# EAGLE library part 55917-2010 (library con-molex_MOD)
2.00mm Pitch MicroClasp™ Wire-to-Board Header, Dual Row, Vertical, 20 Circuits, with PCB Locator
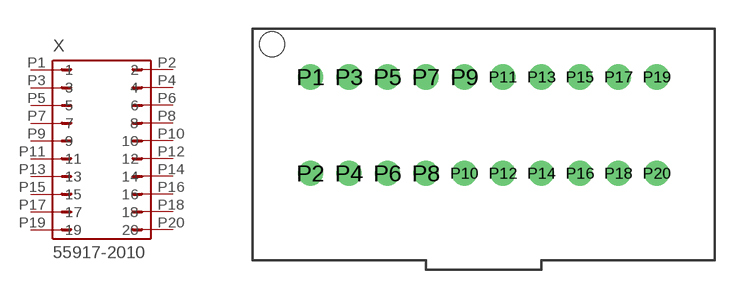
[diagram p227: symbol with the pads of 55917-2010; footprint 55917-2010]

Designator prefix X

## 55917-2010  [55917-2010]
P1  1  pas
P2  2  pas
P3  3  pas
P4  4  pas
P5  5  pas
P6  6  pas
P7  7  pas
P8  8  pas
P9  9  pas
P10  10  pas
P11  11  pas
P12  12  pas
P13  13  pas
P14  14  pas
P15  15  pas
P16  16  pas
P17  17  pas
P18  18  pas
P19  19  pas
P20  20  pas

## Footprint 55917-2010 (pad centres in mm)
drill 0.8: P1 -9,2.5; P2 -9,-2.5; P3 -7,2.5; P4 -7,-2.5; P5 -5,2.5; P6 -5,-2.5; P7 -3,2.5; P8 -3,-2.5; P9 -1,2.5; P10 -1,-2.5; P11 1,2.5; P12 1,-2.5; P13 3,2.5; P14 3,-2.5; P15 5,2.5; P16 5,-2.5; P17 7,2.5; P18 7,-2.5; P19 9,2.5; P20 9,-2.5
hole 1.3 at -11,4.2